# Altium schematic symbol library RS485.SchLib: 4 symbols
Pins are listed as number, name and electrical type; pins without a type are passive.

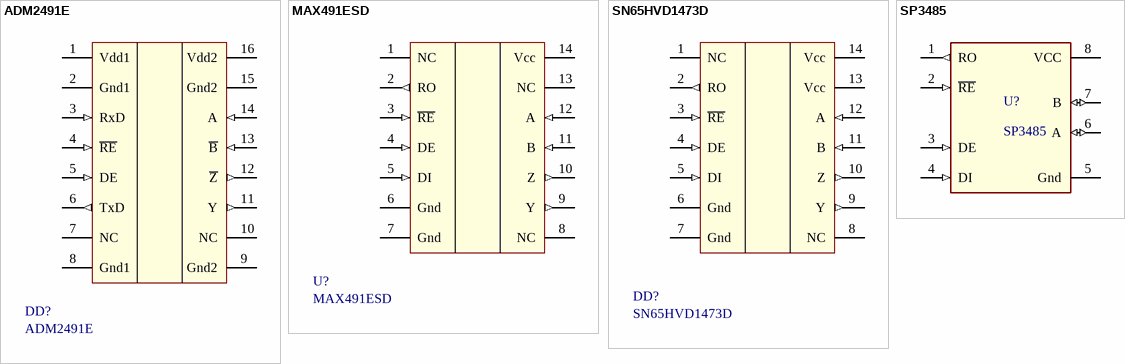
[diagram p0: symbols ADM2491E to SP3485]

## ADM2491E
designator DD?
footprint SOIC16W (16-Lead Standart Small Outline,  Wide Body  (SOIC_W))
pins: 1 Vdd1, 2 Gnd1 (power), 3 RxD (in), 4 ~{RE} (in), 5 DE (in), 6 TxD (out), 7 NC, 8 Gnd1 (power), 9 Gnd2 (power), 10 NC, 11 Y (out), 12 ~{Z} (out), 13 ~{B} (in), 14 A (in), 15 Gnd2 (power), 16 Vdd2 (power)

## MAX491ESD
designator U?
footprint SO-14
pins: 1 NC, 2 RO (out), 3 ~{RE} (in), 4 DE (in), 5 DI (in), 6 Gnd (power), 7 Gnd (power), 8 NC, 9 Y (out), 10 Z (out), 11 B (in), 12 A (in), 13 NC, 14 Vcc (power)

## SN65HVD1473D
designator DD?
footprint SO-14
pins: 1 NC, 2 RO (out), 3 ~{RE} (in), 4 DE (in), 5 DI (in), 6 Gnd (power), 7 Gnd (power), 8 NC, 9 Y (out), 10 Z (out), 11 B (in), 12 A (in), 13 Vcc (power), 14 Vcc (power)

## SP3485
designator U?
3.3V Low Power Half-Duplex RS-485 Transceiver with 10Mbps Data Rate /
footprint SOIC8 (STMicroelectronics SO8N) (SOIC, 8-Leads, Body 4,90x3,90mm, Pitch 1,27mm, IPC Medium Density)
pins: 1 RO (out), 2 ~{RE} (in), 3 DE (in), 4 DI (in), 5 Gnd (power), 6 A (io), 7 B (io), 8 VCC (power)